# Altium schematic symbol library library_fixes.SchLib: 1 symbol
Pins are listed as number, name and electrical type; pins without a type are passive.

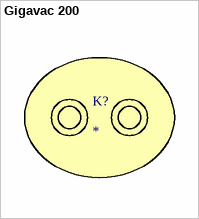
[diagram p0: symbol Gigavac 200]

## Gigavac 200
designator K?
ComponentLink1Description: http://www.gigavac.com/sites/default/files/catalog/spec_sheet/gv200.pdf; ComponentLink1URL: http://www.gigavac.com/sites/default/files/catalog/spec_sheet/gv200.pdf
footprint Gigavac 200